# EAGLE library part SNES_JOYPAD_CONNECTOR (library kalshagar)
Super NES joypad connector.
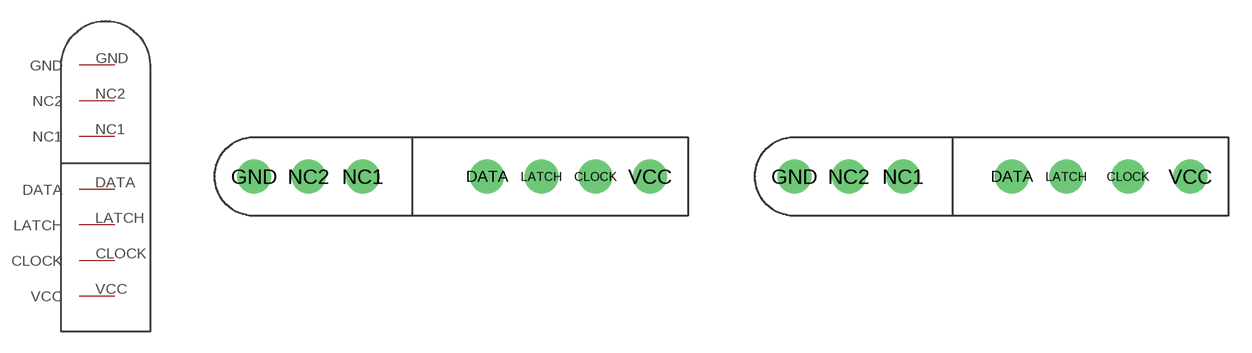
[diagram p9: symbol with the pads of SNES_PAD; footprints SNES_PAD, SNES_PAD2]

Designator prefix -

## SNES_JOYPAD_CONNECTOR  [SNES_PAD]
CLOCK  CLOCK
DATA  DATA
GND  GND
LATCH  LATCH
NC1  NC1
NC2  NC2
VCC  VCC

## SNES_JOYPAD_CONNECTORCLOSER_PINS  [SNES_PAD2]
Pads as for SNES_PAD

## Footprint SNES_PAD (pad centres in mm)
drill 1 pad 2.184: CLOCK 22,0; DATA 15,0; GND 0,0; LATCH 18.5,0; NC1 7,0; NC2 3.5,0; VCC 25.5,0

## Footprint SNES_PAD2 (pad centres in mm)
drill 1 pad 2.184: CLOCK 21.5,0; DATA 14,0; GND 0,0; LATCH 17.5,0; NC1 7,0; NC2 3.5,0; VCC 25.5,0